# Altium footprint library XDCR_VCNT2020.PcbLib: 1 footprints
Each footprint in its own frame and in the unit in brackets; x right, y up, seen from the top. Pads: shape width x height; smd on the part's side, far side on the other; paste and mask are expansions set on the pad; w line width, h text height; cw(c..) or ccw(c..) is an arc to the next point about the centre after c.
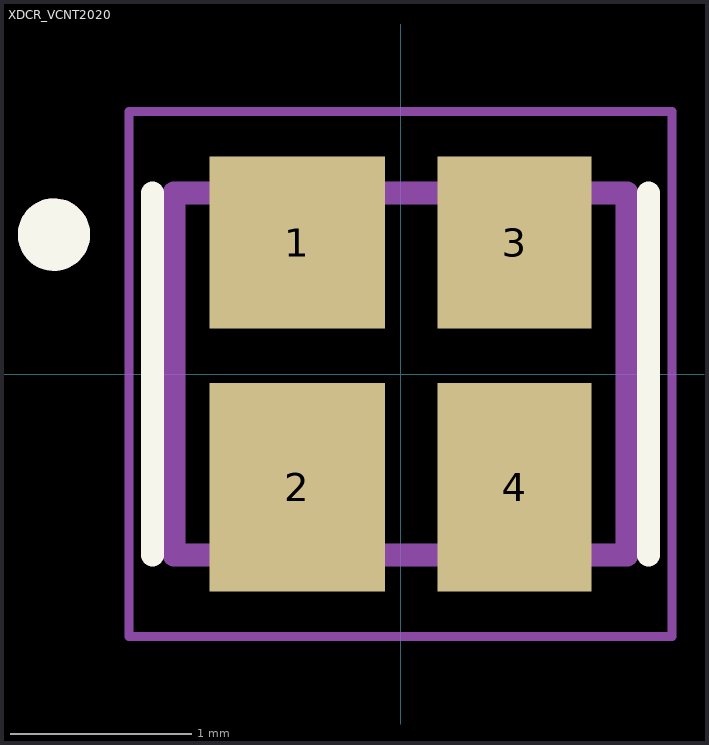
[diagram p0: the footprint, top view; thin cyan lines are the x and y axes]

## XDCR_VCNT2020 [mm]
pads (4):
  rect 0.97x0.95 smd: 1(-0.57,0.725)
  rect 0.97x1.15 smd: 2(-0.57,-0.625)
  rect 0.85x0.95 smd: 3(0.63,0.725)
  rect 0.85x1.15 smd: 4(0.63,-0.625)
Top Overlay:
  circle w0.2: c-1.914,0.77 r0.1
  lines w0.127: -1.37,-1 -1.37,1 ; 1.37,-1 1.37,1
Mechanical 13:
  circle w0.2: c-1.914,0.77 r0.1
  lines w0.127: -1.25,-1 1.25,-1 1.25,1 -1.25,1 -1.25,-1
Mechanical 15:
  lines w0.05: -1.5,-1.45 1.5,-1.45 1.5,1.45 -1.5,1.45 -1.5,-1.45
3D body "step_temp.STEP": height 0.8, standoff 0, extent -1.25,-1 1.25,1